# Altium schematic symbol library PSSL3.SchLib: 176 symbols (part 3 of 3)
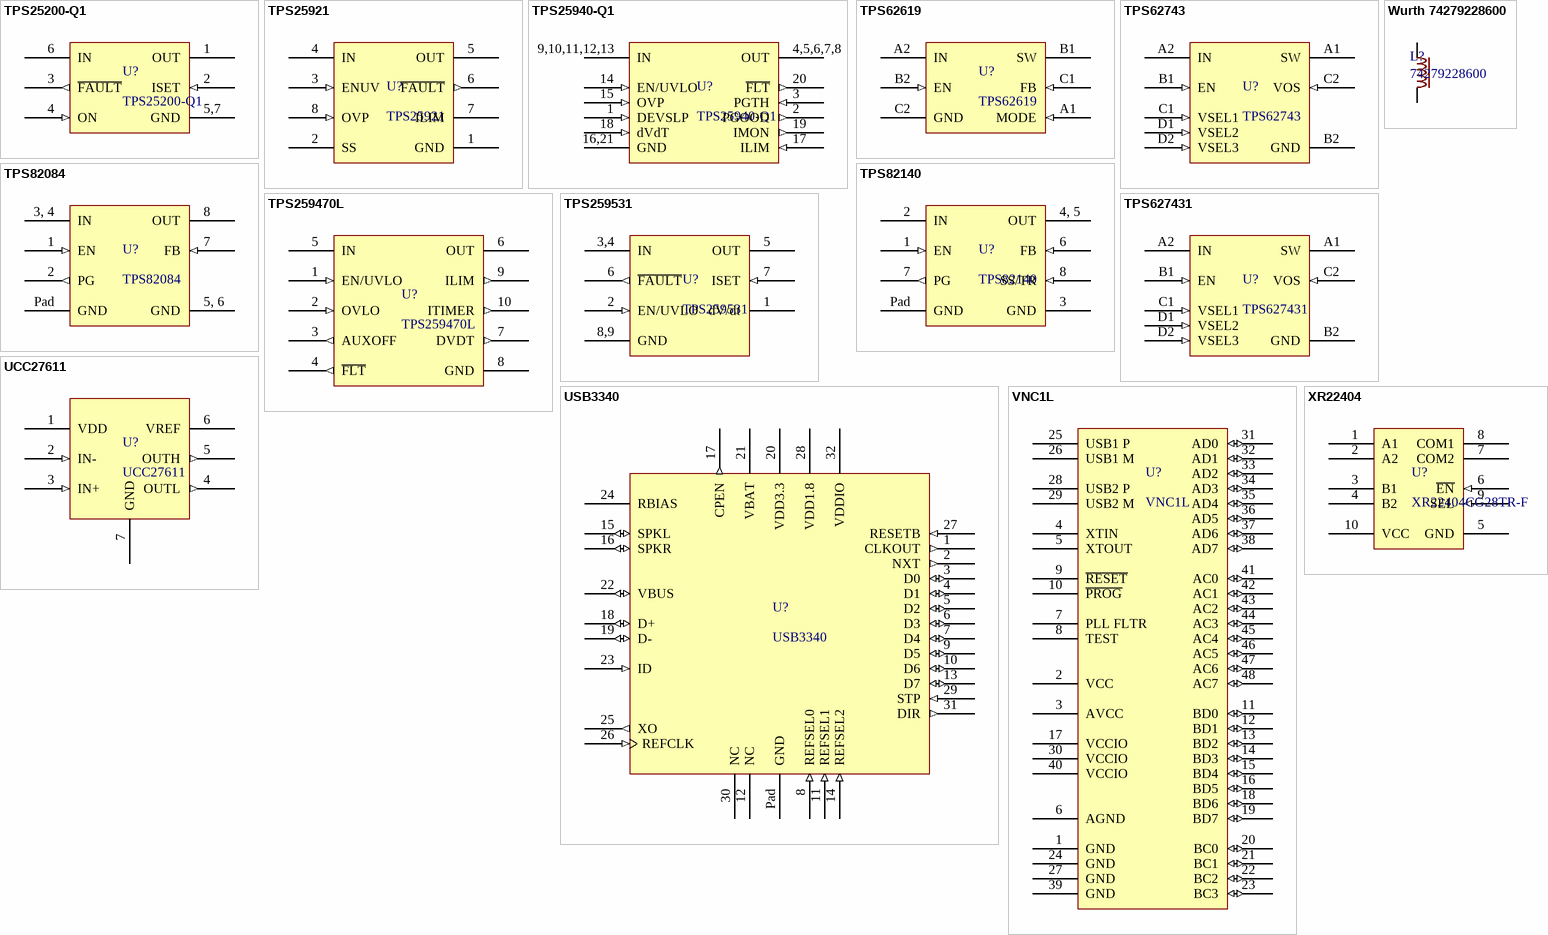
[diagram p10: symbols TPS25200-Q1 to XR22404]

## TPS62619
designator U?
50-mA,  6-MHz High Efficiency Step-Down Converter In Low Profile Chip-Scale Package; Ref: TPS62619
footprint CSP-6 (Ti 6 CSBGA)
pins: A1 MODE (in) "On/Off Control", A2 IN (power) "Power input", B1 SW (power) "Power input", B2 EN (in) "Output Fault Indicator", C1 FB (in) "Current limit setting", C2 GND (power) "Ground"

## TPS62743
designator U?
300 High Efficiency Buck Converter with Ultra-low Quiescent Current; Ref: TPS62743
footprint CSP-8 (Ti 8 CSBGA)
pins: A1 SW (power) "Power input", A2 IN (power) "Power input", B1 EN (in) "Output Fault Indicator", B2 GND (power) "Ground", C1 VSEL1 (in) "Current limit setting", C2 VOS (in) "On/Off Control", D1 VSEL2 (in) "Current limit setting", D2 VSEL3 (in) "Current limit setting"

## TPS82084
designator U?
2-A High-Efficiency Step-Down Converter Module with Integrated Inductor; Ref: TPS82084
footprint USIP133 (microSiP 1.33mm)
pins: 1 EN (in) "Enable auto restart", 2 PG (out) "Output Fault Indicator", 3, 4 IN (power) "Power input", 5, 6 GND (power) "Ground", 7 FB (in) "Enable auto restart", 8 OUT (power) "Power input", Pad GND (power) "Ground"

## TPS82140
designator U?
2-A 17-V Input Step-Down Converter Module with Integrated Inductor; Ref: TPS82140
footprint USIP153 (microSiP 1.53mm)
pins: 1 EN (in) "Enable auto restart", 2 IN (power) "Power input", 3 GND (power) "Ground", 4, 5 OUT (power) "Power input", 6 FB (in) "Enable auto restart", 7 PG (out) "Output Fault Indicator", 8 SS/TR (in) "Enable auto restart", Pad GND (power) "Ground"

## TPS259470L
designator U?
2.7-23 V, 5.5 A, 28 mΩ True Reverse Current Blocking eFuse with Input Reverse Polarity Protection; Ref: TPS259470L
footprint VQFN-HR 2x2 (Texas Instrument VQFN-HR)
pins: 1 EN/UVLO (in) "Polarity selection", 2 OVLO (in) "Polarity selection", 3 AUXOFF (out) "Polarity selection", 4 ~{FLT} (out) "Polarity selection", 5 IN (power) "Power input", 6 OUT (power) "Power input", 7 DVDT (out) "Polarity selection", 8 GND (power) "Power input", 9 ILIM (out) "Polarity selection", 10 ITIMER (out) "Polarity selection"

## TPS259531
designator U?
2.7 V to 18 V, 4-A, 34-mΩ eFuse With Fast Overvoltage Protection; Ref: TPS259531
footprint TDFN8 2x2 TI DSG8 (Texas Instrument WSON DSG8)
pins: 1 dV/dt "On/Off Control", 2 EN/UVLO (in) "On/Off Control", 3,4 IN (power) "Power input", 4 IN (power) "Power input", 5 OUT (power) "Power input", 6 ~{FAULT} (out) "Output Fault Indicator", 7 ISET (in) "Current limit setting", 8,9 GND (power) "Ground", 9 GND (power) "Ground"

## TPS627431
designator U?
400 mA High Efficiency Buck Converter with Ultra-low Quiescent Current; Ref: TPS627431
footprint CSP-8 (Ti 8 CSBGA)
pins: A1 SW (power) "Power input", A2 IN (power) "Power input", B1 EN (in) "Output Fault Indicator", B2 GND (power) "Ground", C1 VSEL1 (in) "Current limit setting", C2 VOS (in) "On/Off Control", D1 VSEL2 (in) "Current limit setting", D2 VSEL3 (in) "Current limit setting"

## UCC27611
designator U?
4-A and 6-A High-Speed 5-V Drive, Optimized Single-Gate Driver; Ref: UCC27611
footprint TDFN6 2x2 (Texas Instrument DRV (S-PWSON-N6) package)
pins: 1 VDD (power) "Power input", 2 IN- (in) "Output Fault Indicator", 3 IN+ (in) "Output Fault Indicator", 4 OUTL (out) "On/Off Control", 5 OUTH (out) "Current limit setting", 6 VREF (power) "Power input", 7 GND (power) "Ground"

## USB3340
designator U?
Single Single Supply HS USB ULPI Trans; Ref: USB3340
footprint LFCSP CP 32 7 (Analog devive package LFCSP CP 32 7)
pins: 1 CLKOUT (out) "ULPI Clock 60MHz", 2 NXT (out) "Next byte sgnal", 3 D0 (io) "Data Lane 0", 4 D1 (io) "Data Lane 1", 5 D2 (io) "Data Lane 2", 6 D3 (io) "Data Lane 3", 7 D4 (io) "Data Lane 0", 8 REFSEL0 (in) "Select xtal frequency", 9 D5 (io) "Data Lane 5", 10 D6 (io) "Data Lane 6", 11 REFSEL1 (in) "Select xtal frequency", 12 NC "No connect", 13 D7 (io) "Data Lane 7", 14 REFSEL2 (in) "Select xtal frequency", 15 SPKL (io) "Speaker Left", 16 SPKR (io) "Speaker Right", 17 CPEN (out) "Enable external 5V", 18 D+ (io) "Data+", 19 D- (io) "Data-", 20 VDD3.3 (power) "3.3V Power", 21 VBAT (power) "Regulator input", 22 VBUS (io) "USB Power", 23 ID (in) "Host/Device selection", 24 RBIAS (power) "Resistor bias", 25 XO (out) "Crystal output", 26 REFCLK (in) "Clock Input", 27 RESETB (in) "Suspend the device", 28 VDD1.8 (power) "1.8V Power", 29 STP (in) "Stop data stream", 30 NC "No connect", 31 DIR (out) "Direction Control", 32 VDDIO (power) "ULPI Power", Pad GND (power) "Ground"

## VNC1L
designator U?
Embedded USB Host Controller IC; Ref: VNC1L
footprint LQFP48
pins: 1 GND (power) "Power input", 2 VCC (power) "Polarity selection", 3 AVCC (power) "Polarity selection", 4 XTIN (power) "Polarity selection", 5 XTOUT (power) "Polarity selection", 6 AGND (power) "Power input", 7 PLL FLTR (power) "Polarity selection", 8 TEST (power) "Polarity selection", 9 ~{RESET} (power) "Polarity selection", 10 ~{PROG} (power) "Polarity selection", 11 BD0 (io) "Polarity selection", 12 BD1 (io) "Polarity selection", 13 BD2 (io) "Polarity selection", 14 BD3 (io) "Polarity selection", 15 BD4 (io) "Polarity selection", 16 BD5 (io) "Polarity selection", 17 VCCIO (power) "Polarity selection", 18 BD6 (io) "Polarity selection", 19 BD7 (io) "Polarity selection", 20 BC0 (io) "Polarity selection", 21 BC1 (io) "Polarity selection", 22 BC2 (io) "Polarity selection", 23 BC3 (io) "Polarity selection", 24 GND (power) "Power input", 25 USB1 P (power) "Polarity selection", 26 USB1 M (power) "Polarity selection", 27 GND (power) "Power input", 28 USB2 P (power) "Polarity selection", 29 USB2 M (power) "Polarity selection", 30 VCCIO (power) "Polarity selection", 31 AD0 (io) "Polarity selection", 32 AD1 (io) "Polarity selection", 33 AD2 (io) "Polarity selection", 34 AD3 (io) "Polarity selection", 35 AD4 (io) "Polarity selection", 36 AD5 (io) "Polarity selection", 37 AD6 (io) "Polarity selection", 38 AD7 (io) "Polarity selection", 39 GND (power) "Power input", 40 VCCIO (power) "Polarity selection", 41 AC0 (io) "Polarity selection", 42 AC1 (io) "Polarity selection", 43 AC2 (io) "Polarity selection", 44 AC3 (io) "Polarity selection", 45 AC4 (io) "Polarity selection", 46 AC5 (io) "Polarity selection", 47 AC6 (io) "Polarity selection", 48 AC7 (io) "Polarity selection"

## Wurth 74279228600
designator L?, comment 74279228600
Ferrite bead 60R 0603; Value: 60R; Ref: 74279228600; Digikey: 240-1018-1-ND
footprint 0603 (SMD 0603)
pins: 1, 2

## XR22404
designator U?, comment XR22404CG28TR-F
USB 2.0 4-Port Hub; Ref: XR22404CG28TR-F
footprint UQFN 10 (Texas Instrument package RSE)
pins: 1 A1 (power) "Polarity selection", 2 A2 (power) "Polarity selection", 3 B1 (power) "Polarity selection", 4 B2 (power) "Polarity selection", 5 GND (power) "Power input", 6 ~{EN} (in) "Polarity selection", 7 COM2 (power) "Polarity selection", 8 COM1 (power) "Polarity selection", 9 SEL (in) "Polarity selection", 10 VCC (power) "Polarity selection"